# Altium footprint library EVM54304-MN-01A.PcbLib: 19 footprints (part 2 of 2)
Each footprint in its own frame and in the unit in brackets; x right, y up, seen from the top. Pads: shape width x height; smd on the part's side, far side on the other; paste and mask are expansions set on the pad; w line width, h text height; cw(c..) or ccw(c..) is an arc to the next point about the centre after c.
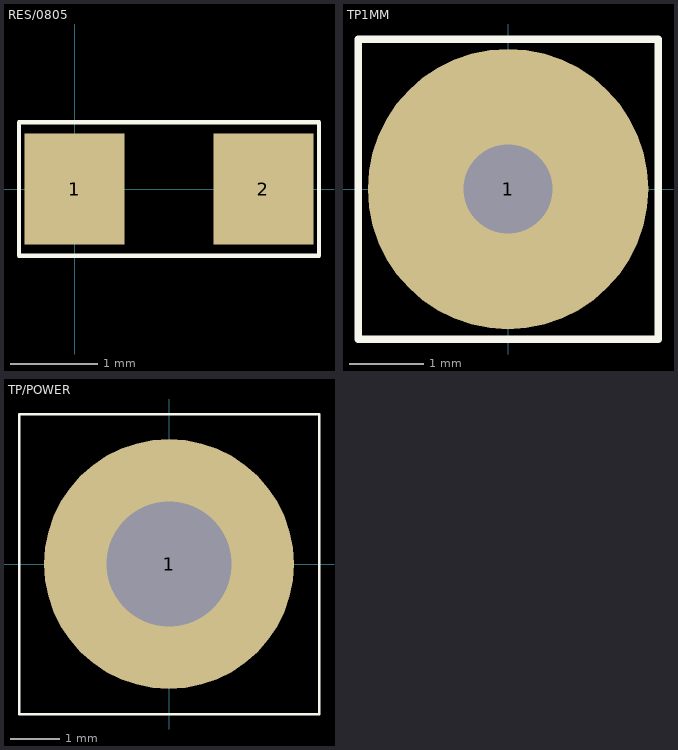
[diagram p1: the footprints below, top view; thin cyan lines are the x and y axes]

## RES/0805 [mil]
height 50
pads (2):
  rect 45x50 smd paste-1000: 1(0,0) 2(85,0)
Top Overlay:
  lines w1.97: -25,-30 -25,30 110,30 110,-30 -25,-30
Top Paste:
  region: 74.75,23.2 70.75,22.41 67.36,20.14 65.09,16.75 64.3,12.75 64.3,-12.75 65.09,-16.75 67.36,-20.14 70.75,-22.41 74.75,-23.2 95.25,-23.2 99.25,-22.41 102.64,-20.14 104.91,-16.75 105.7,-12.75 105.7,12.75 104.91,16.75 102.64,20.14 99.25,22.41 95.25,23.2
  region: -10.25,23.2 -14.25,22.41 -17.64,20.14 -19.91,16.75 -20.7,12.75 -20.7,-12.75 -19.91,-16.75 -17.64,-20.14 -14.25,-22.41 -10.25,-23.2 10.25,-23.2 14.25,-22.41 17.64,-20.14 19.91,-16.75 20.7,-12.75 20.7,12.75 19.91,16.75 17.64,20.14 14.25,22.41 10.25,23.2

## TP1MM [mm]
height 1.27
pads (1):
  round 3.8 hole 1.2 paste-25.4: 1(0,0)
Top Overlay:
  lines w0.102: -2.032,-2.032 2.032,-2.032 2.032,2.032 -2.032,2.032 -2.032,-2.032
Top Paste:
  region: 0,1.787 -0.349,1.752 -0.684,1.651 -0.993,1.486 -1.263,1.263 -1.486,0.993 -1.651,0.684 -1.752,0.349 -1.787,0 -1.752,-0.349 -1.651,-0.684 -1.486,-0.993 -1.263,-1.263 -0.993,-1.486 -0.684,-1.651 -0.349,-1.752 0,-1.787 0.349,-1.752 0.684,-1.651 0.993,-1.486 1.263,-1.263 1.486,-0.993 1.651,-0.684 1.752,-0.349 1.787,0 1.752,0.349 1.651,0.684 1.486,0.993 1.263,1.263 0.993,1.486 0.684,1.651 0.349,1.752
Bottom Paste:
  region: 0,1.787 -0.349,1.752 -0.684,1.651 -0.993,1.486 -1.263,1.263 -1.486,0.993 -1.651,0.684 -1.752,0.349 -1.787,0 -1.752,-0.349 -1.651,-0.684 -1.486,-0.993 -1.263,-1.263 -0.993,-1.486 -0.684,-1.651 -0.349,-1.752 0,-1.787 0.349,-1.752 0.684,-1.651 0.993,-1.486 1.263,-1.263 1.486,-0.993 1.651,-0.684 1.752,-0.349 1.787,0 1.752,0.349 1.651,0.684 1.486,0.993 1.263,1.263 0.993,1.486 0.684,1.651 0.349,1.752

## TP/POWER [mm]
height 1.27
pads (1):
  round 5.08 hole 2.54: 1(0,0)
Top Overlay:
  lines w0.051: -3.048,-3.048 -3.048,3.048 3.048,3.048 3.048,-3.048 -3.048,-3.048